# Altium footprint library Components.PcbLib: 1 footprints
Each footprint in its own frame and in the unit in brackets; x right, y up, seen from the top. Pads: shape width x height; smd on the part's side, far side on the other; paste and mask are expansions set on the pad; w line width, h text height; cw(c..) or ccw(c..) is an arc to the next point about the centre after c.
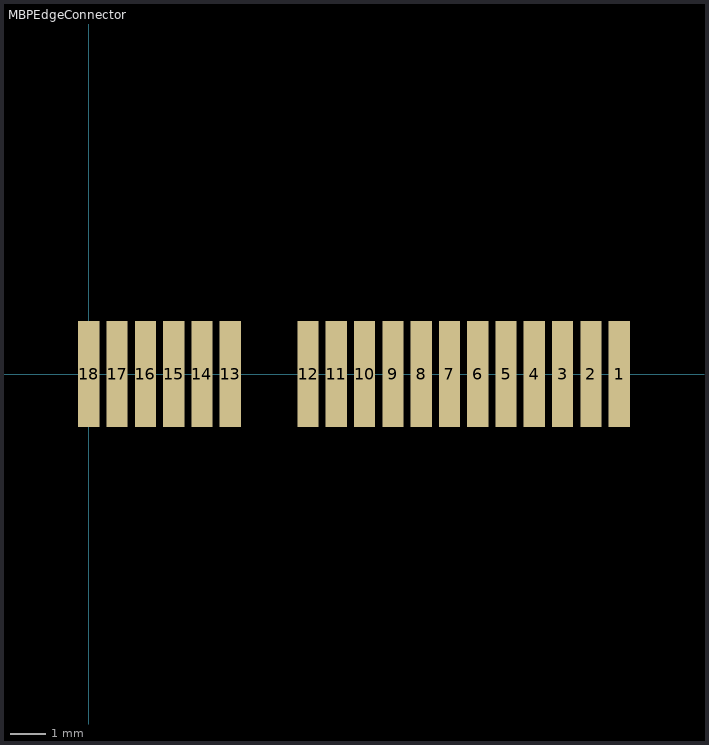
[diagram p0: the footprint, top view; thin cyan lines are the x and y axes]

## MBPEdgeConnector [mm]
pads (18):
  rect 0.6x3 smd paste-3 mask+0: 1(15,0) 2(14.2,0) 3(13.4,0) 4(12.6,0) 5(11.8,0) 6(11,0) 7(10.2,0) 8(9.4,0) 9(8.6,0) 10(7.8,0) 11(7,0) 12(6.2,0) 13(4,0) 14(3.2,0) 15(2.4,0) 16(1.6,0) 17(0.8,0) 18(0,0)